# Altium schematic symbol library Schlib1.SchLib: 4 symbols
Pins are listed as number, name and electrical type; pins without a type are passive.

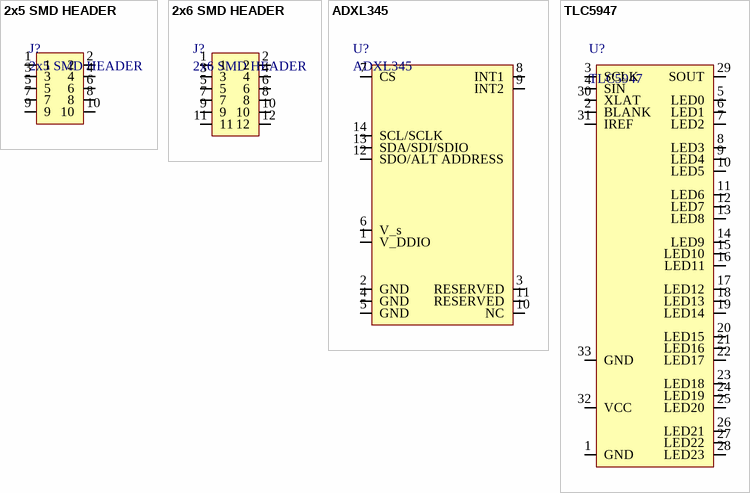
[diagram p0: symbols 2x5 SMD HEADER to TLC5947]

## 2x5 SMD HEADER
designator J?
footprint 2x5 SMD HEADER
pins: 1, 2, 3, 4, 5, 6, 7, 8, 9, 10

## 2x6 SMD HEADER
designator J?
footprint 2x6 SMD HEADER
pins: 1, 2, 3, 4, 5, 6, 7, 8, 9, 10, 11, 12

## ADXL345
designator U?
footprint ADXL345
pins: 1 V_DDIO, 2 GND, 3 RESERVED, 4 GND, 5 GND, 6 V_s, 7 CS, 8 INT1, 9 INT2, 10 NC, 11 RESERVED, 12 SDO/ALT ADDRESS, 13 SDA/SDI/SDIO, 14 SCL/SCLK

## TLC5947
designator U?
footprint TLC5947 (TSOP, 32-Leads, Body 11.00x6.10mm, Pitch 0.65mm, Thermal Pad 4.36x4.11mm, IPC High Density)
pins: 1 GND, 2 BLANK, 3 SCLK, 4 SIN, 5 LED0, 6 LED1, 7 LED2, 8 LED3, 9 LED4, 10 LED5, 11 LED6, 12 LED7, 13 LED8, 14 LED9, 15 LED10, 16 LED11, 17 LED12, 18 LED13, 19 LED14, 20 LED15, 21 LED16, 22 LED17, 23 LED18, 24 LED19, 25 LED20, 26 LED21, 27 LED22, 28 LED23, 29 SOUT, 30 XLAT, 31 IREF, 32 VCC, 33 GND